# Altium schematic symbol library CON_04_pin_GOST.SchLib: 1 symbol
Pins are listed as number, name and electrical type; pins without a type are passive.

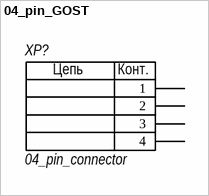
[diagram p0: symbol 04_pin_GOST]

## 04_pin_GOST
designator XP?, comment 04_pin_connector
footprint MOLEX PB4
footprint MOLEX PB4 - V
pins: 1, 2, 3, 4
text: Цепь; Конт.